# Altium schematic symbol library SCH.SCHLIB: 63 symbols (part 2 of 2)
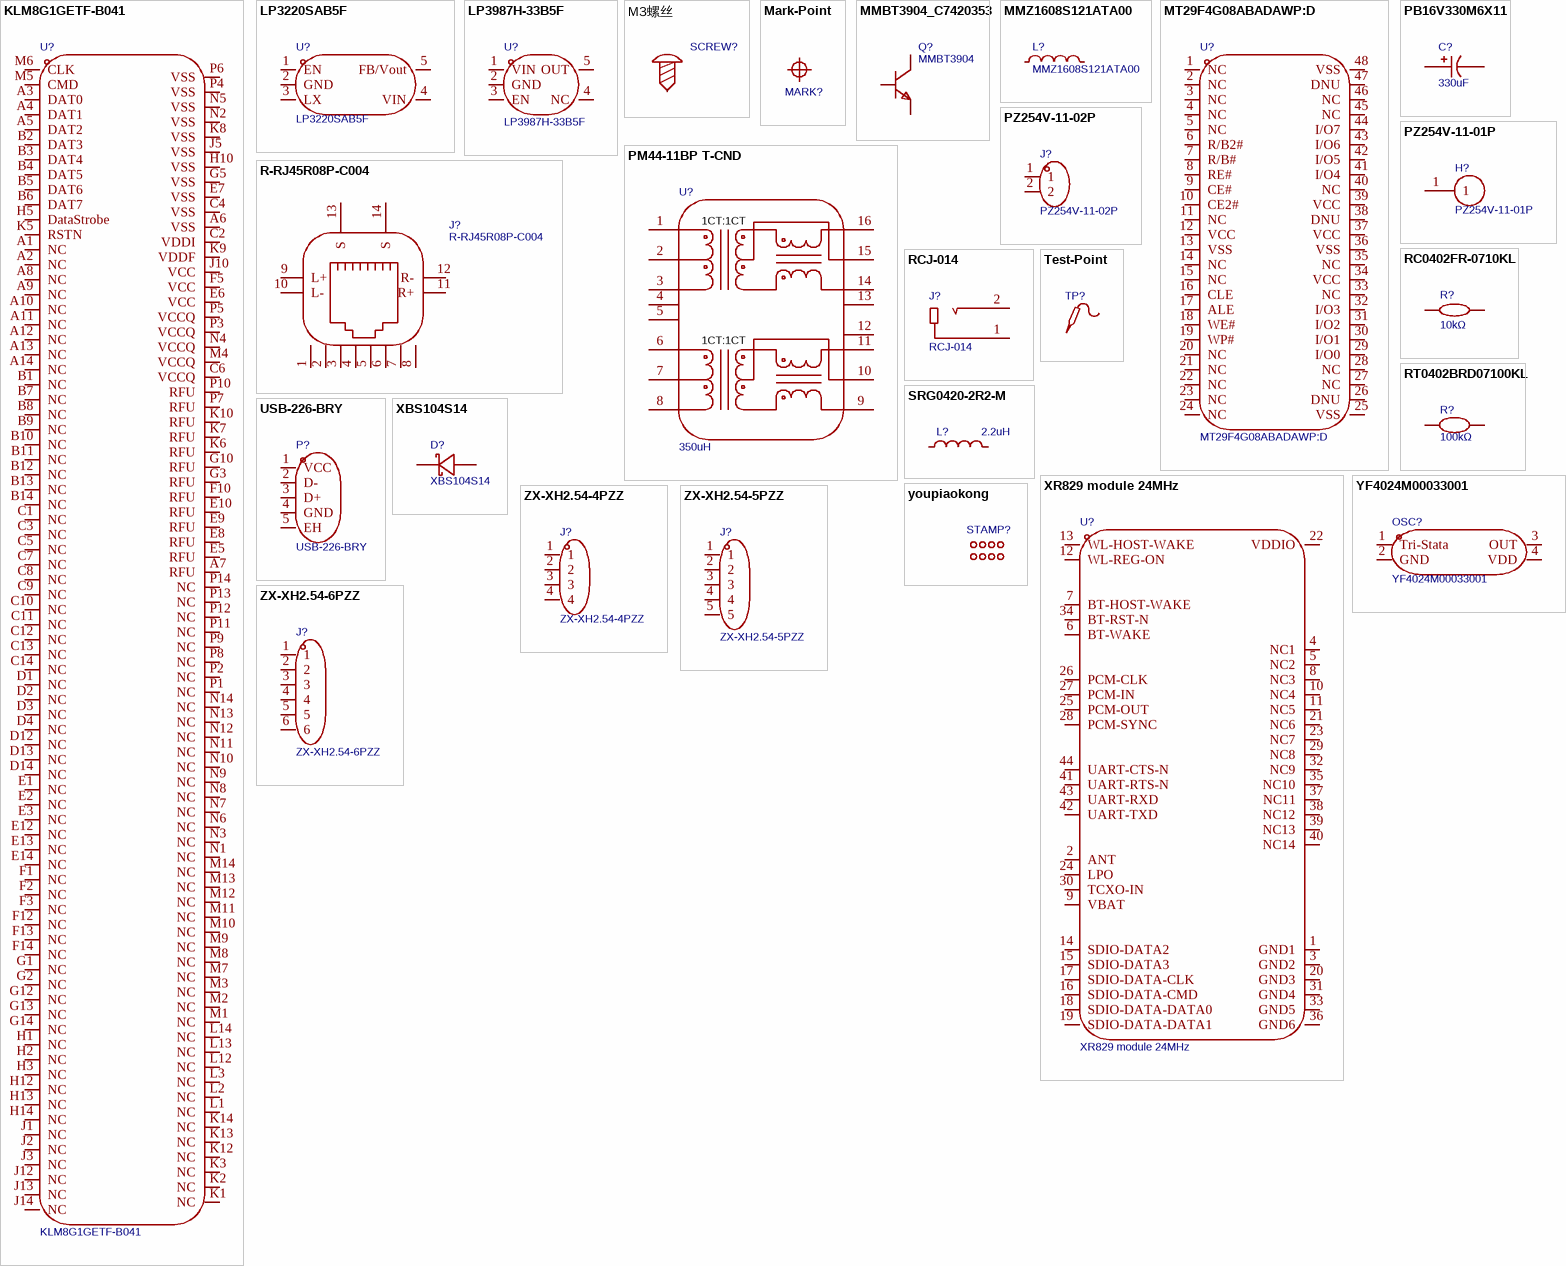
[diagram p2: symbols KLM8G1GETF-B041 to ZX-XH2.54-6PZZ]

## YF4024M00033001
designator OSC?
Manufacturer: HUAXIN(华昕); AddInBom: yes; ModelId: abac09874cf942b1977c54e82ea110d7聨0819f05c4eef4c71ace90d822a990e87; ModelName: OSC-SMD_4P-L3.2-W2.5-BL_1C210000BB0F; ModelTransform: 126.063,98.504,0,0,0,0,0,0,0; Symbol: YF4024M00033001; Device: YF4024M00033001; LCSC Part Name: 24M ±20ppm 1.8~3.3V; SupplierPart: C7503132; ManufacturerPart: YF4024M00033001; Supplier Footprint: SMD3225-4P; JLCPCB Part Class: Extended Part; Datasheet: https://item.szlcsc.com/datasheet/YF4024M00033001/8591324.html; Supplier: LCSC; ConvertToPcb: yes; FootprintName: OSC-SMD_4P-L3.2-W2.5-BL_1C210000BB0F
footprint OSC-SMD_4P-L3.2-W2.5-BL_1C210000BB0F
pins: 1 Tri-Stata, 2 GND, 3 OUT, 4 VDD

## youpiaokong
designator STAMP?
Symbol: youpiaokong; AddInBom: yes; Device: youpiaokong; FootprintName: youpiaokong; ConvertToPcb: yes
footprint youpiaokong

## ZX-XH2.54-4PZZ
designator J?
插针结构:1x4P;间距:2.5mm;安装方式:直插;参考系列:XH;总PIN数:4P;排数:1;每排PIN数:4;行距:-;额定电流:3A;触头材质:黄铜;触头镀层:锡;工作温度:-25℃~+85℃;; Manufacturer: Megastar(兆星); 3D Model: 5458b55d28744a3c82c1e0e5bffe4e87聨0819f05c4eef4c71ace90d822a990e87; 3D Model Transform: 492.125,224.409,0,180,0,0,0,17.717,-118.11; Pins Structure: 1x4P; Pitch: 2.5mm; Reference Series: XH; Number of PINs Per Row: 4; Current Rating: 3A; Voltage Rating: 250V; Plastic Material: PA66; Flame Retardant Rating: UL94V-0; Z-Height of the Board: 7mm; X-Length of Bottom Edge on Board (Spacing Line): 12.5mm; Y-Width of Bottom Edge on Board: 5.9mm; AddInBom: yes; ModelName: CONN-TH_4P-P2.50_4PIN; Symbol: ZX-XH2.54-4PZZ; Device: ZX-XH2.54-4PZZ; LCSC Part Name: 1x4P 间距:2.5mm 直插 系列:XH; Supplier Part: C7429634; Manufacturer Part: ZX-XH2.54-4PZZ; Supplier Footprint: 插件,P=2.5mm; JLCPCB Part Class: Extended Part; Datasheet: https://item.szlcsc.com/datasheet/ZX-XH2.54-4PZZ/8427551.html; Supplier: LCSC; Mounting Type: 直插; Number of Pins: 4P; Number of Rows: 1; Row Spacing: -; Contact Material: 黄铜; Contact Plating: 锡; Operating Temperature: -25℃~+85℃; Supplementary Features: -; Color: 白色; ConvertToPcb: yes; FootprintName: CONN-TH_4P-P2.50_4PIN
footprint CONN-TH_4P-P2.50_4PIN
3D model CONN-TH_4P-P2.50_4PIN
pins: 1, 2, 3, 4

## ZX-XH2.54-5PZZ
designator J?
插针结构:1x5P;间距:2.5mm;安装方式:直插;参考系列:XH;总PIN数:5P;排数:1;每排PIN数:5;行距:-;额定电流:3A;触头材质:黄铜;触头镀层:锡;工作温度:-25℃~+85℃;; Manufacturer: Megastar(兆星); AddInBom: yes; ModelId: d05584c4f2494e6996f34343461d4ab0聨0819f05c4eef4c71ace90d822a990e87; ModelName: CONN-TH_5P-P2.50_ZX-XH2.54-5PZZ; ModelTransform: 590.55,232.6767,0,0,0,0,0,14.528,-133.858; Pins Structure: 1x5P; Pitch: 2.5mm; Reference Series: XH; Number of PINs Per Row: 5; Current Rating: 3A; Voltage Rating: 250V; Plastic Material: PA66; Flame Retardant Rating: UL94V-0; Z-Height of the Board: 7mm; X-Length of Bottom Edge on Board (Spacing Line): 15mm; Y-Width of Bottom Edge on Board: 5.9mm; Symbol: ZX-XH2.54-5PZZ; Device: ZX-XH2.54-5PZZ; LCSC Part Name: 1x5P 间距:2.5mm 直插 系列:XH; SupplierPart: C7429635; ManufacturerPart: ZX-XH2.54-5PZZ; Supplier Footprint: 插件,P=2.5mm; JLCPCB Part Class: Extended Part; Datasheet: https://item.szlcsc.com/datasheet/ZX-XH2.54-5PZZ/8427552.html; Supplier: LCSC; ConvertToPcb: yes; FootprintName: CONN-TH_5P-P2.50_ZX-XH2.54-5PZZ; Mounting Type: 直插; Number of Pins: 5P; Number of Rows: 1; Row Spacing: -; Contact Material: 黄铜; Contact Plating: 锡; Operating Temperature: -25℃~+85℃; Supplementary Features: -; Color: 白色
footprint CONN-TH_5P-P2.50_ZX-XH2.54-5PZZ
pins: 1, 2, 3, 4, 5

## ZX-XH2.54-6PZZ
designator J?
插针结构:1x6P;间距:2.5mm;安装方式:直插;参考系列:XH;总PIN数:6P;排数:1;每排PIN数:6;行距:-;额定电流:3A;触头材质:黄铜;触头镀层:锡;工作温度:-25℃~+85℃;; Manufacturer: Megastar(兆星); 3D Model: 69bbd5a736b94698bef26e8b4cdae04d聨0819f05c4eef4c71ace90d822a990e87; 3D Model Transform: 688.975,232.6767,0,0,0,0,0,14.528,-133.858; Pins Structure: 1x6P; Pitch: 2.5mm; Reference Series: XH; Number of PINs Per Row: 6; Current Rating: 3A; Voltage Rating: 250V; Plastic Material: PA66; Flame Retardant Rating: UL94V-0; Z-Height of the Board: 7mm; X-Length of Bottom Edge on Board (Spacing Line): 17.5mm; Y-Width of Bottom Edge on Board: 5.9mm; AddInBom: yes; ModelName: CONN-TH_6P-P2.50_ZX-XH2.54-6PZZ; Symbol: ZX-XH2.54-6PZZ; Device: ZX-XH2.54-6PZZ; LCSC Part Name: 1x6P 间距:2.5mm 直插 系列:XH; Supplier Part: C7429636; Manufacturer Part: ZX-XH2.54-6PZZ; Supplier Footprint: 插件,P=2.5mm; JLCPCB Part Class: Extended Part; Datasheet: https://item.szlcsc.com/datasheet/ZX-XH2.54-6PZZ/8427553.html; Supplier: LCSC; Mounting Type: 直插; Number of Pins: 6P; Number of Rows: 1; Row Spacing: -; Contact Material: 黄铜; Contact Plating: 锡; Operating Temperature: -25℃~+85℃; Supplementary Features: -; Color: 白色; ConvertToPcb: yes; FootprintName: CONN-TH_6P-P2.50_ZX-XH2.54-6PZZ
footprint CONN-TH_6P-P2.50_ZX-XH2.54-6PZZ
3D model CONN-TH_6P-P2.50_ZX-XH2.54-6PZZ
pins: 1, 2, 3, 4, 5, 6